# Altium integrated library TI Audio CODEC.IntLib: 199 symbols (part 4 of 17)
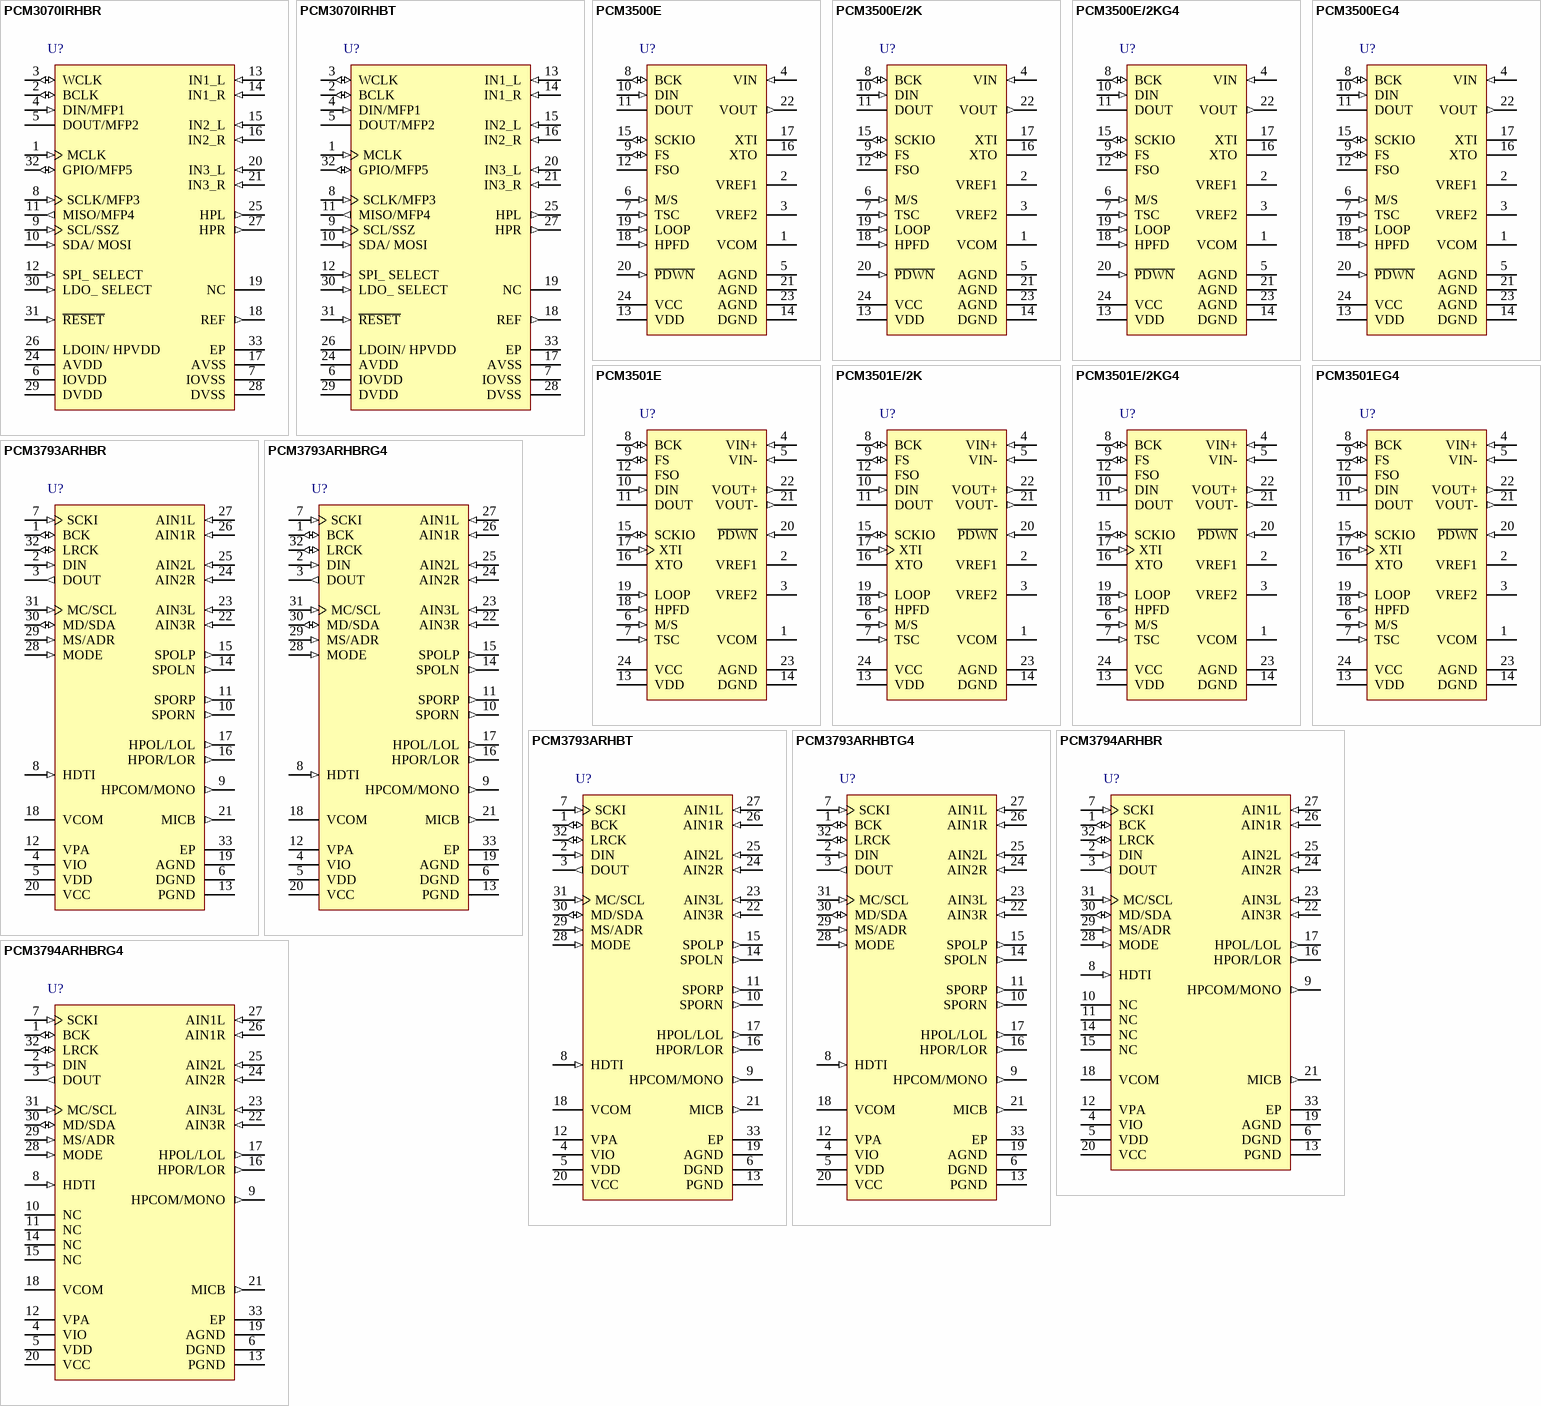
[diagram p16: symbols PCM3070IRHBR to PCM3794ARHBRG4]

## PCM3793ARHBT
designator U?
Very Low-Power Stereo CODEC with HP / Class-D Speaker Amplifier, Notch Filters, ALC and 3D Effects, 2 ADCs and 2 DACs, 93 dB DAC SNR, -40 to 85 degC, 32-pin QFN (RHB), Green (RoHS & no Sb/Br); Manufacturer: Texas Instruments; PartNumber: PCM3793ARHBT; # ADCs (typ): 2; Additional Features: 3D, EQ, Notch filters, ALC; Battery Powered: TRUE; Control Interface: SPI, I2C; DAC SNR: 93; Digital Audio Interfaces: L, R, I2S, DSP; Sampling Rate (Max) (kHz): 50; Speaker Amp Output Power(Max)(W): 0.7; DatasheetVersion: SLAS529A; PackageVersion: revD, Jun-2011; PackageReference: RHB32-3450X3450TP; PackageDescription: 32-Pin Plastic Quad Flat No-Lead, 5 x 5 mm Body, 0.5 mm Pitch, 3.45 x 3.45 mm Exposed Pad; Supplier 1: Digi-Key; Supplier Part Number 1: PCM3793ARHBT-ND; Supplier 2: Newark; Supplier Part Number 2: 30M1568; Supplier 3: Mouser; Supplier Part Number 3: 595-PCM3793ARHBT; # DACs: 2; Speaker Amp Ouputs: 2; Speaker Amp Type: Class-D; Mounting Technology: Surface Mount; Code_JEDEC: MO-220; ComponentLink1Description: Datasheet; ComponentLink1URL: http://www.ti.com/general/docs/lit/getliterature.tsp?genericPartNumber=PCM3793A&fileType=pdf
footprint RHB32-3450X3450TP (QFN, 32-Leads, Body 5x5mm, Pitch 0.5mm, Thermal Pad 3.45x3.45mm, TI Recommended)
pins: 1 BCK (io) "Serial bit clock", 2 DIN (in) "Serial audio data input", 3 DOUT (out) "Serial audio data output", 4 VIO (power) "Power supply for digital I/O", 5 VDD (power) "Power supply for digital core", 6 DGND (power) "Digital ground", 7 SCKI (in) "System clock", 8 HDTI (in) "Headphone plug insertion detection", 9 HPCOM/MONO (out) "Headphone common/mono line output", 10 SPORN (out) "Speaker output R-channel for negative (PCM3793A)", 11 SPORP (out) "Speaker output R-channel for positive (PCM3793A)", 12 VPA (power) "Power supply for power amplifier", 13 PGND (power) "Ground for speaker power amplifier", 14 SPOLN (out) "Speaker output L-channel for negative (PCM3793A)", 15 SPOLP (out) "Speaker output L-channel for positive (PCM3793A)", 16 HPOR/LOR (out) "Headphone/lineout for L-channel", 17 HPOL/LOL (out) "Headphone/lineout for R-channel", 18 VCOM "Analog common voltage", 19 AGND (power) "Ground for analog", 20 VCC (power) "Analog power supply", 21 MICB (out) "Microphone bias source output", 22 AIN3R (in) "Analog input 3 for R-channel", 23 AIN3L (in) "Analog input 3 for L-channel", 24 AIN2R (in) "Analog input 2 for R-channel", 25 AIN2L (in) "Analog input 2 for L-channel", 26 AIN1R (in) "Analog input 1 for R-channel", 27 AIN1L (in) "Analog input 1 for L-channel", 28 MODE (in) "Two- or three-wire interface selection (LOW: SPI, HIGH: I2C)", 29 MS/ADR (in) "Mode control select for three-wire/two-wire interface", 30 MD/SDA (io) "Mode control data for three-wire/two-wire interface", 31 MC/SCL (in) "Mode control clock for three-wire/two-wire interface", 32 LRCK (io) "Left and right channel clock", 33 EP "Exposed Thremal Pad"

## PCM3793ARHBTG4
designator U?
Very Low-Power Stereo CODEC with HP / Class-D Speaker Amplifier, Notch Filters, ALC and 3D Effects, 2 ADCs and 2 DACs, 93 dB DAC SNR, -40 to 85 degC, 32-pin QFN (RHB), Green (RoHS & no Sb/Br); Manufacturer: Texas Instruments; PartNumber: PCM3793ARHBTG4; # ADCs (typ): 2; Additional Features: 3D, EQ, Notch filters, ALC; Battery Powered: TRUE; Control Interface: SPI, I2C; DAC SNR: 93; Digital Audio Interfaces: L, R, I2S, DSP; Sampling Rate (Max) (kHz): 50; Speaker Amp Output Power(Max)(W): 0.7; DatasheetVersion: SLAS529A; PackageVersion: revD, Jun-2011; PackageReference: RHB32-3450X3450TP; PackageDescription: 32-Pin Plastic Quad Flat No-Lead, 5 x 5 mm Body, 0.5 mm Pitch, 3.45 x 3.45 mm Exposed Pad; Supplier 1: Digi-Key; Supplier Part Number 1: PCM3793ARHBTG4-ND; Supplier 2: Newark; Supplier Part Number 2: 33M9603; Supplier 3: Mouser; Supplier Part Number 3: 595-PCM3793ARHBTG4; # DACs: 2; Headphone Driver: TRUE; Speaker Amp Ouputs: 2; Speaker Amp Type: Class-D; Mounting Technology: Surface Mount; Code_JEDEC: MO-220; ComponentLink1Description: Datasheet; ComponentLink1URL: http://www.ti.com/general/docs/lit/getliterature.tsp?genericPartNumber=PCM3793A&fileType=pdf
footprint RHB32-3450X3450TP (QFN, 32-Leads, Body 5x5mm, Pitch 0.5mm, Thermal Pad 3.45x3.45mm, TI Recommended)
pins: 1 BCK (io) "Serial bit clock", 2 DIN (in) "Serial audio data input", 3 DOUT (out) "Serial audio data output", 4 VIO (power) "Power supply for digital I/O", 5 VDD (power) "Power supply for digital core", 6 DGND (power) "Digital ground", 7 SCKI (in) "System clock", 8 HDTI (in) "Headphone plug insertion detection", 9 HPCOM/MONO (out) "Headphone common/mono line output", 10 SPORN (out) "Speaker output R-channel for negative (PCM3793A)", 11 SPORP (out) "Speaker output R-channel for positive (PCM3793A)", 12 VPA (power) "Power supply for power amplifier", 13 PGND (power) "Ground for speaker power amplifier", 14 SPOLN (out) "Speaker output L-channel for negative (PCM3793A)", 15 SPOLP (out) "Speaker output L-channel for positive (PCM3793A)", 16 HPOR/LOR (out) "Headphone/lineout for L-channel", 17 HPOL/LOL (out) "Headphone/lineout for R-channel", 18 VCOM "Analog common voltage", 19 AGND (power) "Ground for analog", 20 VCC (power) "Analog power supply", 21 MICB (out) "Microphone bias source output", 22 AIN3R (in) "Analog input 3 for R-channel", 23 AIN3L (in) "Analog input 3 for L-channel", 24 AIN2R (in) "Analog input 2 for R-channel", 25 AIN2L (in) "Analog input 2 for L-channel", 26 AIN1R (in) "Analog input 1 for R-channel", 27 AIN1L (in) "Analog input 1 for L-channel", 28 MODE (in) "Two- or three-wire interface selection (LOW: SPI, HIGH: I2C)", 29 MS/ADR (in) "Mode control select for three-wire/two-wire interface", 30 MD/SDA (io) "Mode control data for three-wire/two-wire interface", 31 MC/SCL (in) "Mode control clock for three-wire/two-wire interface", 32 LRCK (io) "Left and right channel clock", 33 EP "Exposed Thremal Pad"

## PCM3794ARHBR
designator U?
Very Low-Power Stereo CODEC with HP Amplifier, Notch Filters, ALC and 3D Effects, 2 ADCs and 2 DACs, 93 dB DAC SNR, -40 to 85 degC, 32-pin QFN (RHB), Green (RoHS & no Sb/Br); Manufacturer: Texas Instruments; PartNumber: PCM3794ARHBR; # ADCs (typ): 2; Additional Features: 3D, EQ, Notch filters, ALC; Battery Powered: TRUE; Control Interface: SPI, I2C; DAC SNR: 93; Digital Audio Interfaces: L, R, I2S, DSP; Sampling Rate (Max) (kHz): 50; DatasheetVersion: SLAS529A; PackageVersion: revD, Jun-2011; PackageReference: RHB32-3450X3450TP; PackageDescription: 32-Pin Plastic Quad Flat No-Lead, 5 x 5 mm Body, 0.5 mm Pitch, 3.45 x 3.45 mm Exposed Pad; Supplier 1: Digi-Key; Supplier Part Number 1: 296-21538-2-ND; Supplier 2: Digi-Key; Supplier Part Number 2: 296-21538-1-ND; Supplier 3: Digi-Key; Supplier Part Number 3: 296-21538-6-ND; Supplier 4: Newark; Supplier Part Number 4: 45M9718; Supplier 5: Mouser; Supplier Part Number 5: 595-PCM3794ARHBR; # DACs: 2; Mounting Technology: Surface Mount; Code_JEDEC: MO-220; ComponentLink1Description: Datasheet; ComponentLink1URL: http://www.ti.com/general/docs/lit/getliterature.tsp?genericPartNumber=PCM3794A&fileType=pdf
footprint RHB32-3450X3450TP (QFN, 32-Leads, Body 5x5mm, Pitch 0.5mm, Thermal Pad 3.45x3.45mm, TI Recommended)
pins: 1 BCK (io) "Serial bit clock.", 2 DIN (in) "Serial audio data input.", 3 DOUT (out) "Serial audio data output.", 4 VIO (power) "Power supply for digital I/O.", 5 VDD (power) "Power supply for digital core.", 6 DGND (power) "Digital ground.", 7 SCKI (in) "System clock.", 8 HDTI (in) "Headphone plug insertion detection.", 9 HPCOM/MONO (out) "Headphone common/mono line output.", 10 NC "No connection.", 11 NC "No connection.", 12 VPA (power) "Power supply for power amplifier.", 13 PGND (power) "Ground for speaker power amplifier.", 14 NC "No connection.", 15 NC "No connection.", 16 HPOR/LOR (out) "Headphone/lineout for L-channel.", 17 HPOL/LOL (out) "Headphone/lineout for R-channel.", 18 VCOM "Analog common voltage.", 19 AGND (power) "Ground for analog.", 20 VCC (power) "Analog power supply.", 21 MICB (out) "Microphone bias source output.", 22 AIN3R (in) "Analog input 3 for R-channel.", 23 AIN3L (in) "Analog input 3 for L-channel.", 24 AIN2R (in) "Analog input 2 for R-channel.", 25 AIN2L (in) "Analog input 2 for L-channel.", 26 AIN1R (in) "Analog input 1 for R-channel.", 27 AIN1L (in) "Analog input 1 for L-channel.", 28 MODE (in) "Two- or three-wire interface selection (LOW: SPI, HIGH: I 2C).", 29 MS/ADR (in) "Mode control select for three-wire/two-wire interface.", 30 MD/SDA (io) "Mode control data for three-wire/two-wire interface.", 31 MC/SCL (in) "Mode control clock for three-wire/two-wire interface.", 32 LRCK (io) "Left and right channel clock.", 33 EP "Exposed thermal pad."

## PCM3794ARHBRG4
designator U?
Very Low-Power Stereo CODEC with HP Amplifier, Notch Filters, ALC and 3D Effects, 2 ADCs and 2 DACs, 93 dB DAC SNR, -40 to 85 degC, 32-pin QFN (RHB), Green (RoHS & no Sb/Br); Manufacturer: Texas Instruments; PartNumber: PCM3794ARHBRG4; # ADCs (typ): 2; Additional Features: 3D, EQ, Notch filters, ALC; Battery Powered: TRUE; Control Interface: SPI, I2C; DAC SNR: 93; Digital Audio Interfaces: L, R, I2S, DSP; Sampling Rate (Max) (kHz): 50; DatasheetVersion: SLAS529A; PackageVersion: revD, Jun-2011; PackageReference: RHB32-3450X3450TP; PackageDescription: 32-Pin Plastic Quad Flat No-Lead, 5 x 5 mm Body, 0.5 mm Pitch, 3.45 x 3.45 mm Exposed Pad; Supplier 1: Digi-Key; Supplier Part Number 1: PCM3794ARHBRG4-ND; Supplier 2: Newark; Supplier Part Number 2: 52M5947; Supplier 3: Mouser; Supplier Part Number 3: 595-PCM3794ARHBRG4; # DACs: 2; Headphone Driver: TRUE; Mounting Technology: Surface Mount; Code_JEDEC: MO-220; ComponentLink1Description: Datasheet; ComponentLink1URL: http://www.ti.com/general/docs/lit/getliterature.tsp?genericPartNumber=PCM3794A&fileType=pdf
footprint RHB32-3450X3450TP (QFN, 32-Leads, Body 5x5mm, Pitch 0.5mm, Thermal Pad 3.45x3.45mm, TI Recommended)
pins: 1 BCK (io) "Serial bit clock.", 2 DIN (in) "Serial audio data input.", 3 DOUT (out) "Serial audio data output.", 4 VIO (power) "Power supply for digital I/O.", 5 VDD (power) "Power supply for digital core.", 6 DGND (power) "Digital ground.", 7 SCKI (in) "System clock.", 8 HDTI (in) "Headphone plug insertion detection.", 9 HPCOM/MONO (out) "Headphone common/mono line output.", 10 NC "No connection.", 11 NC "No connection.", 12 VPA (power) "Power supply for power amplifier.", 13 PGND (power) "Ground for speaker power amplifier.", 14 NC "No connection.", 15 NC "No connection.", 16 HPOR/LOR (out) "Headphone/lineout for L-channel.", 17 HPOL/LOL (out) "Headphone/lineout for R-channel.", 18 VCOM "Analog common voltage.", 19 AGND (power) "Ground for analog.", 20 VCC (power) "Analog power supply.", 21 MICB (out) "Microphone bias source output.", 22 AIN3R (in) "Analog input 3 for R-channel.", 23 AIN3L (in) "Analog input 3 for L-channel.", 24 AIN2R (in) "Analog input 2 for R-channel.", 25 AIN2L (in) "Analog input 2 for L-channel.", 26 AIN1R (in) "Analog input 1 for R-channel.", 27 AIN1L (in) "Analog input 1 for L-channel.", 28 MODE (in) "Two- or three-wire interface selection (LOW: SPI, HIGH: I 2C).", 29 MS/ADR (in) "Mode control select for three-wire/two-wire interface.", 30 MD/SDA (io) "Mode control data for three-wire/two-wire interface.", 31 MC/SCL (in) "Mode control clock for three-wire/two-wire interface.", 32 LRCK (io) "Left and right channel clock.", 33 EP "Exposed thermal pad."

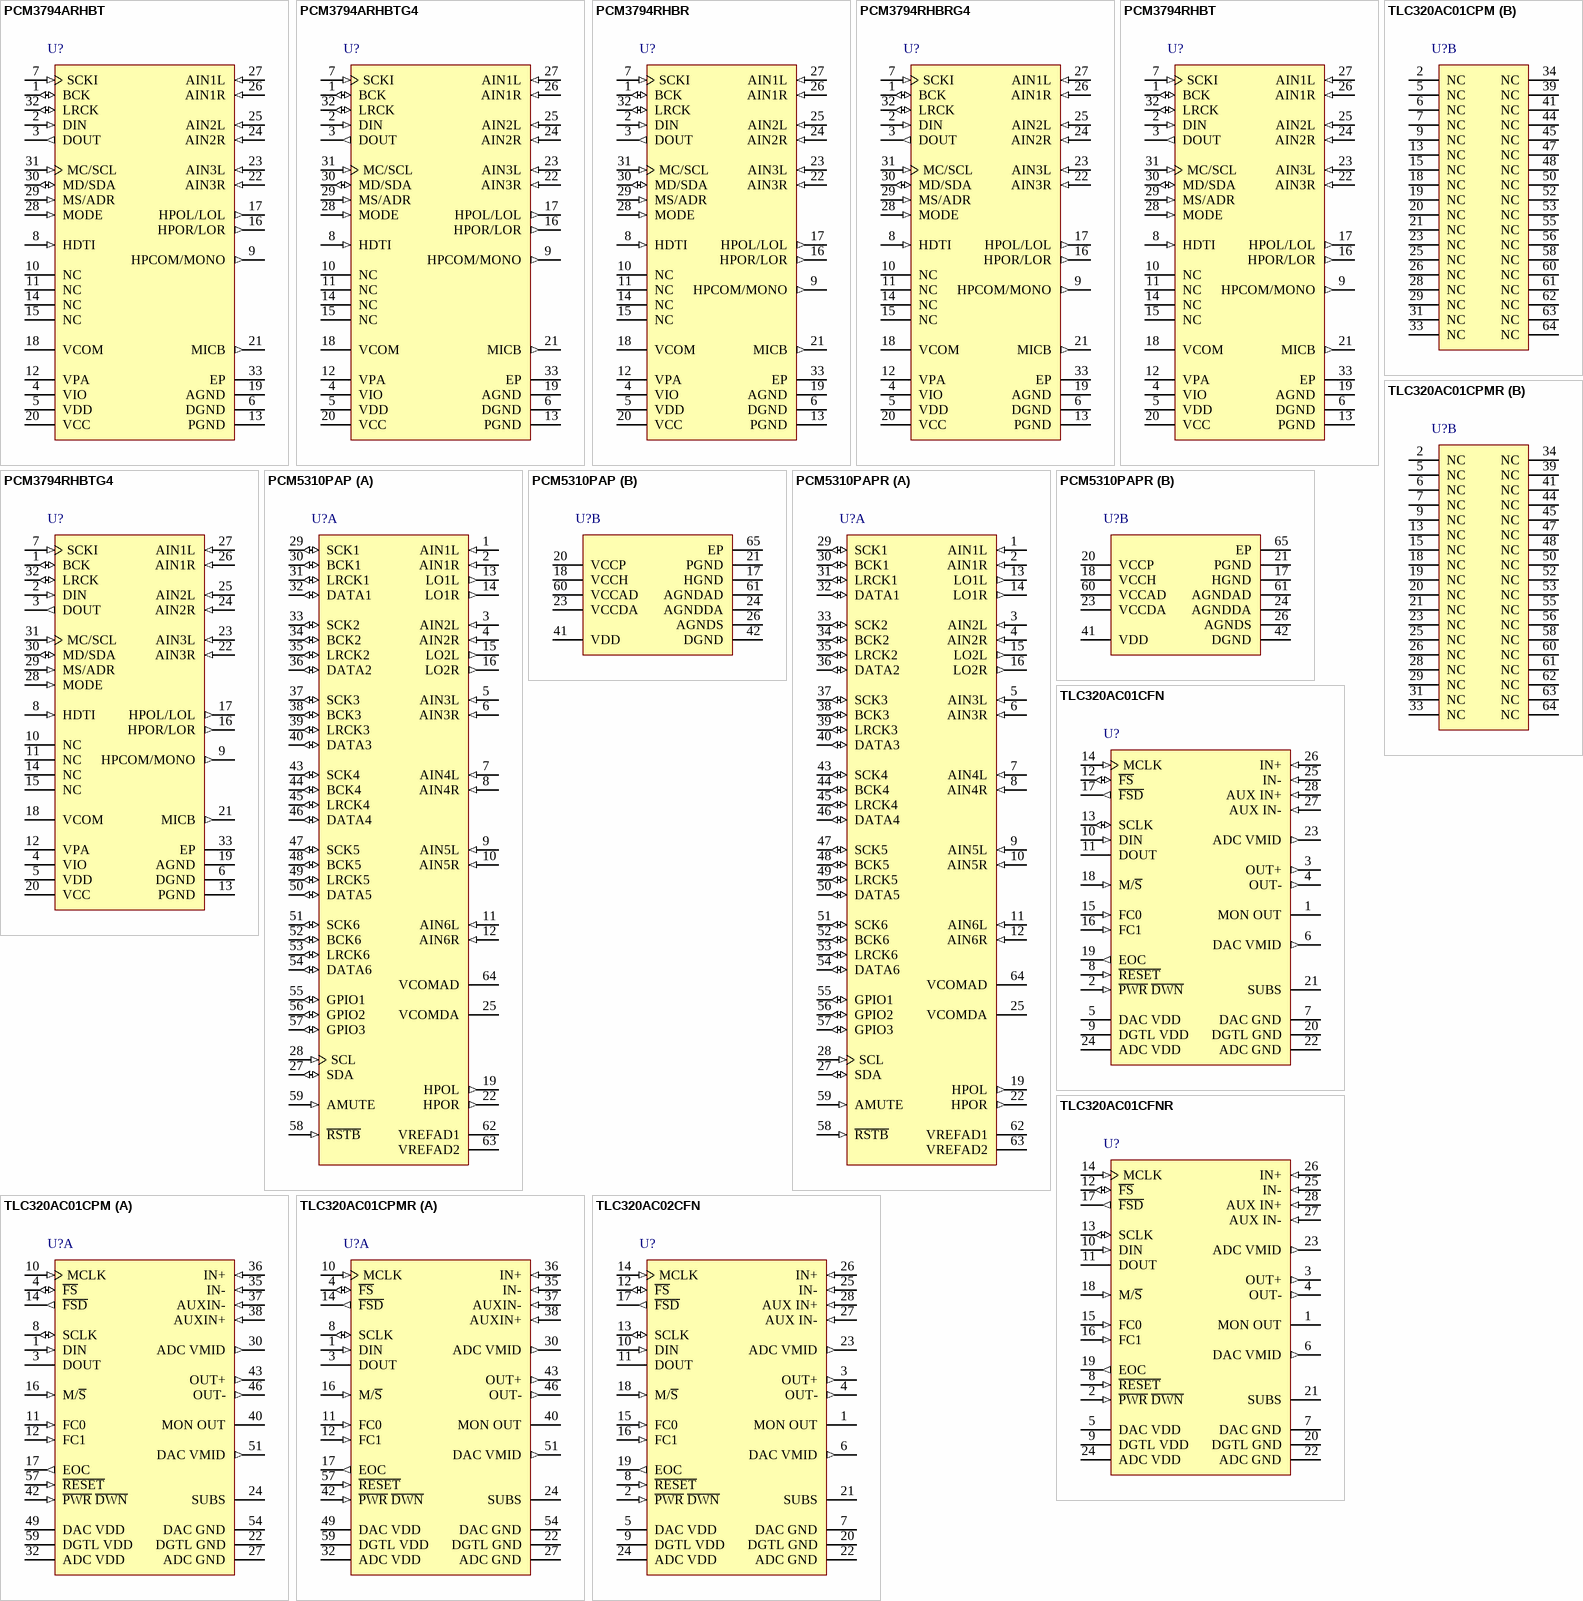
[diagram p3: symbols PCM3794ARHBT to TLC320AC02CFN]

## PCM3794ARHBT
designator U?
Very Low-Power Stereo CODEC with HP Amplifier, Notch Filters, ALC and 3D Effects, 2 ADCs and 2 DACs, 93 dB DAC SNR, -40 to 85 degC, 32-pin QFN (RHB), Green (RoHS & no Sb/Br); Manufacturer: Texas Instruments; PartNumber: PCM3794ARHBT; # ADCs (typ): 2; Additional Features: 3D, EQ, Notch filters, ALC; Battery Powered: TRUE; Control Interface: SPI, I2C; DAC SNR: 93; Digital Audio Interfaces: L, R, I2S, DSP; Sampling Rate (Max) (kHz): 50; DatasheetVersion: SLAS529A; PackageVersion: revD, Jun-2011; PackageReference: RHB32-3450X3450TP; PackageDescription: 32-Pin Plastic Quad Flat No-Lead, 5 x 5 mm Body, 0.5 mm Pitch, 3.45 x 3.45 mm Exposed Pad; Supplier 1: Digi-Key; Supplier Part Number 1: 296-21786-2-ND; Supplier 2: Digi-Key; Supplier Part Number 2: 296-21786-1-ND; Supplier 3: Digi-Key; Supplier Part Number 3: 296-21786-6-ND; Supplier 4: Newark; Supplier Part Number 4: 45M9719; Supplier 5: Mouser; Supplier Part Number 5: 595-PCM3794ARHBT; # DACs: 2; Mounting Technology: Surface Mount; Code_JEDEC: MO-220; ComponentLink1Description: Datasheet; ComponentLink1URL: http://www.ti.com/general/docs/lit/getliterature.tsp?genericPartNumber=PCM3794A&fileType=pdf
footprint RHB32-3450X3450TP (QFN, 32-Leads, Body 5x5mm, Pitch 0.5mm, Thermal Pad 3.45x3.45mm, TI Recommended)
pins: 1 BCK (io) "Serial bit clock.", 2 DIN (in) "Serial audio data input.", 3 DOUT (out) "Serial audio data output.", 4 VIO (power) "Power supply for digital I/O.", 5 VDD (power) "Power supply for digital core.", 6 DGND (power) "Digital ground.", 7 SCKI (in) "System clock.", 8 HDTI (in) "Headphone plug insertion detection.", 9 HPCOM/MONO (out) "Headphone common/mono line output.", 10 NC "No connection.", 11 NC "No connection.", 12 VPA (power) "Power supply for power amplifier.", 13 PGND (power) "Ground for speaker power amplifier.", 14 NC "No connection.", 15 NC "No connection.", 16 HPOR/LOR (out) "Headphone/lineout for L-channel.", 17 HPOL/LOL (out) "Headphone/lineout for R-channel.", 18 VCOM "Analog common voltage.", 19 AGND (power) "Ground for analog.", 20 VCC (power) "Analog power supply.", 21 MICB (out) "Microphone bias source output.", 22 AIN3R (in) "Analog input 3 for R-channel.", 23 AIN3L (in) "Analog input 3 for L-channel.", 24 AIN2R (in) "Analog input 2 for R-channel.", 25 AIN2L (in) "Analog input 2 for L-channel.", 26 AIN1R (in) "Analog input 1 for R-channel.", 27 AIN1L (in) "Analog input 1 for L-channel.", 28 MODE (in) "Two- or three-wire interface selection (LOW: SPI, HIGH: I 2C).", 29 MS/ADR (in) "Mode control select for three-wire/two-wire interface.", 30 MD/SDA (io) "Mode control data for three-wire/two-wire interface.", 31 MC/SCL (in) "Mode control clock for three-wire/two-wire interface.", 32 LRCK (io) "Left and right channel clock.", 33 EP "Exposed thermal pad."

## PCM3794ARHBTG4
designator U?
Very Low-Power Stereo CODEC with HP Amplifier, Notch Filters, ALC and 3D Effects, 2 ADCs and 2 DACs, 93 dB DAC SNR, -40 to 85 degC, 32-pin QFN (RHB), Green (RoHS & no Sb/Br); Manufacturer: Texas Instruments; PartNumber: PCM3794ARHBTG4; # ADCs (typ): 2; Additional Features: 3D, EQ, Notch filters, ALC; Battery Powered: TRUE; Control Interface: SPI, I2C; DAC SNR: 93; Digital Audio Interfaces: L, R, I2S, DSP; Sampling Rate (Max) (kHz): 50; DatasheetVersion: SLAS529A; PackageVersion: revD, Jun-2011; PackageReference: RHB32-3450X3450TP; PackageDescription: 32-Pin Plastic Quad Flat No-Lead, 5 x 5 mm Body, 0.5 mm Pitch, 3.45 x 3.45 mm Exposed Pad; Supplier 1: Digi-Key; Supplier Part Number 1: PCM3794ARHBTG4-ND; Supplier 2: Newark; Supplier Part Number 2: 52M5948; Supplier 3: Mouser; Supplier Part Number 3: 595-PCM3794ARHBTG4; # DACs: 2; Headphone Driver: TRUE; Mounting Technology: Surface Mount; Code_JEDEC: MO-220; ComponentLink1Description: Datasheet; ComponentLink1URL: http://www.ti.com/general/docs/lit/getliterature.tsp?genericPartNumber=PCM3794A&fileType=pdf
footprint RHB32-3450X3450TP (QFN, 32-Leads, Body 5x5mm, Pitch 0.5mm, Thermal Pad 3.45x3.45mm, TI Recommended)
pins: 1 BCK (io) "Serial bit clock.", 2 DIN (in) "Serial audio data input.", 3 DOUT (out) "Serial audio data output.", 4 VIO (power) "Power supply for digital I/O.", 5 VDD (power) "Power supply for digital core.", 6 DGND (power) "Digital ground.", 7 SCKI (in) "System clock.", 8 HDTI (in) "Headphone plug insertion detection.", 9 HPCOM/MONO (out) "Headphone common/mono line output.", 10 NC "No connection.", 11 NC "No connection.", 12 VPA (power) "Power supply for power amplifier.", 13 PGND (power) "Ground for speaker power amplifier.", 14 NC "No connection.", 15 NC "No connection.", 16 HPOR/LOR (out) "Headphone/lineout for L-channel.", 17 HPOL/LOL (out) "Headphone/lineout for R-channel.", 18 VCOM "Analog common voltage.", 19 AGND (power) "Ground for analog.", 20 VCC (power) "Analog power supply.", 21 MICB (out) "Microphone bias source output.", 22 AIN3R (in) "Analog input 3 for R-channel.", 23 AIN3L (in) "Analog input 3 for L-channel.", 24 AIN2R (in) "Analog input 2 for R-channel.", 25 AIN2L (in) "Analog input 2 for L-channel.", 26 AIN1R (in) "Analog input 1 for R-channel.", 27 AIN1L (in) "Analog input 1 for L-channel.", 28 MODE (in) "Two- or three-wire interface selection (LOW: SPI, HIGH: I 2C).", 29 MS/ADR (in) "Mode control select for three-wire/two-wire interface.", 30 MD/SDA (io) "Mode control data for three-wire/two-wire interface.", 31 MC/SCL (in) "Mode control clock for three-wire/two-wire interface.", 32 LRCK (io) "Left and right channel clock.", 33 EP "Exposed thermal pad."

## PCM3794RHBR
designator U?
Very Low-Power Stereo CODEC with HP Amplifier, Notch Filters, ALC and 3D Effects, 2 ADCs and 2 DACs, 93 dB DAC SNR, 32-pin QFN (RHB), Green (RoHS & no Sb/Br); Manufacturer: Texas Instruments; PartNumber: PCM3794RHBR; # ADCs (typ): 2; Additional Features: 3D, EQ, Notch filters, ALC; Battery Powered: TRUE; Control Interface: SPI, I2C; DAC SNR: 93; Digital Audio Interfaces: L, R, I2S, DSP; Sampling Rate (Max) (kHz): 50; DatasheetVersion: SLES193C; PackageVersion: revD, Jun-2011; PackageReference: RHB32-3450X3450TP; PackageDescription: 32-Pin Plastic Quad Flat No-Lead, 5 x 5 mm Body, 0.5 mm Pitch, 3.45 x 3.45 mm Exposed Pad; Supplier 1: Digi-Key; Supplier Part Number 1: 296-21241-2-ND; Supplier 2: Digi-Key; Supplier Part Number 2: 296-21241-1-ND; Supplier 3: Digi-Key; Supplier Part Number 3: 296-21241-6-ND; Supplier 4: Newark; Supplier Part Number 4: 18M2720; Supplier 5: Mouser; Supplier Part Number 5: 595-PCM3794RHBR; # DACs: 2; Mounting Technology: Surface Mount; Code_JEDEC: MO-220; ComponentLink1Description: Datasheet; ComponentLink1URL: http://www.ti.com/general/docs/lit/getliterature.tsp?genericPartNumber=PCM3794&fileType=pdf
footprint RHB32-3450X3450TP (QFN, 32-Leads, Body 5x5mm, Pitch 0.5mm, Thermal Pad 3.45x3.45mm, TI Recommended)
pins: 1 BCK (io) "Serial bit clock.", 2 DIN (in) "Serial audio data input.", 3 DOUT (out) "Serial audio data output.", 4 VIO (power) "Power supply for digital I/O.", 5 VDD (power) "Power supply for digital core.", 6 DGND (power) "Digital ground.", 7 SCKI (in) "System clock.", 8 HDTI (in) "Headphone plug insertion detection.", 9 HPCOM/MONO (out) "Headphone common/mono line output.", 10 NC "Speaker output R-channel for negative (PCM3793).", 11 NC "Speaker output R-channel for positive (PCM3793).", 12 VPA (power) "Power supply for power amplifier.", 13 PGND (power) "Ground for speaker power amplifier.", 14 NC "Speaker output L-channel for negative (PCM3793).", 15 NC "Speaker output L-channel for positive (PCM3793).", 16 HPOR/LOR (out) "Headphone/lineout for L-channel.", 17 HPOL/LOL (out) "Headphone/lineout for R-channel.", 18 VCOM "Analog common voltage.", 19 AGND (power) "Ground for analog.", 20 VCC (power) "Analog power supply.", 21 MICB (out) "Microphone bias source output.", 22 AIN3R (in) "Analog input 3 for R-channel.", 23 AIN3L (in) "Analog input 3 for L-channel.", 24 AIN2R (in) "Analog input 2 for R-channel.", 25 AIN2L (in) "Analog input 2 for L-channel.", 26 AIN1R (in) "Analog input 1 for R-channel.", 27 AIN1L (in) "Analog input 1 for L-channel.", 28 MODE (in) "Two- or three-wire interface selection (LOW: SPI, HIGH: I 2C).", 29 MS/ADR (in) "Mode control select for three-wire/two-wire interface.", 30 MD/SDA (io) "Mode control data for three-wire/two-wire interface.", 31 MC/SCL (in) "Mode control clock for three-wire/two-wire interface.", 32 LRCK (io) "Left and right channel clock.", 33 EP "Exposed thermal pad."

## PCM3794RHBRG4
designator U?
Very Low-Power Stereo CODEC with HP Amplifier, Notch Filters, ALC and 3D Effects, 2 ADCs and 2 DACs, 93 dB DAC SNR, 32-pin QFN (RHB), Green (RoHS & no Sb/Br); Manufacturer: Texas Instruments; PartNumber: PCM3794RHBRG4; # ADCs (typ): 2; Additional Features: 3D, EQ, Notch filters, ALC; Battery Powered: TRUE; Control Interface: SPI, I2C; DAC SNR: 93; Digital Audio Interfaces: L, R, I2S, DSP; Sampling Rate (Max) (kHz): 50; DatasheetVersion: SLES193C; PackageVersion: revD, Jun-2011; PackageReference: RHB32-3450X3450TP; PackageDescription: 32-Pin Plastic Quad Flat No-Lead, 5 x 5 mm Body, 0.5 mm Pitch, 3.45 x 3.45 mm Exposed Pad; Supplier 1: Digi-Key; Supplier Part Number 1: PCM3794RHBRG4-ND; Supplier 2: Newark; Supplier Part Number 2: 20M5707; Supplier 3: Mouser; Supplier Part Number 3: 595-PCM3794RHBRG4; # DACs: 2; Headphone Driver: TRUE; Mounting Technology: Surface Mount; Code_JEDEC: MO-220; ComponentLink1Description: Datasheet; ComponentLink1URL: http://www.ti.com/general/docs/lit/getliterature.tsp?genericPartNumber=PCM3794&fileType=pdf
footprint RHB32-3450X3450TP (QFN, 32-Leads, Body 5x5mm, Pitch 0.5mm, Thermal Pad 3.45x3.45mm, TI Recommended)
pins: 1 BCK (io) "Serial bit clock.", 2 DIN (in) "Serial audio data input.", 3 DOUT (out) "Serial audio data output.", 4 VIO (power) "Power supply for digital I/O.", 5 VDD (power) "Power supply for digital core.", 6 DGND (power) "Digital ground.", 7 SCKI (in) "System clock.", 8 HDTI (in) "Headphone plug insertion detection.", 9 HPCOM/MONO (out) "Headphone common/mono line output.", 10 NC "Speaker output R-channel for negative (PCM3793).", 11 NC "Speaker output R-channel for positive (PCM3793).", 12 VPA (power) "Power supply for power amplifier.", 13 PGND (power) "Ground for speaker power amplifier.", 14 NC "Speaker output L-channel for negative (PCM3793).", 15 NC "Speaker output L-channel for positive (PCM3793).", 16 HPOR/LOR (out) "Headphone/lineout for L-channel.", 17 HPOL/LOL (out) "Headphone/lineout for R-channel.", 18 VCOM "Analog common voltage.", 19 AGND (power) "Ground for analog.", 20 VCC (power) "Analog power supply.", 21 MICB (out) "Microphone bias source output.", 22 AIN3R (in) "Analog input 3 for R-channel.", 23 AIN3L (in) "Analog input 3 for L-channel.", 24 AIN2R (in) "Analog input 2 for R-channel.", 25 AIN2L (in) "Analog input 2 for L-channel.", 26 AIN1R (in) "Analog input 1 for R-channel.", 27 AIN1L (in) "Analog input 1 for L-channel.", 28 MODE (in) "Two- or three-wire interface selection (LOW: SPI, HIGH: I 2C).", 29 MS/ADR (in) "Mode control select for three-wire/two-wire interface.", 30 MD/SDA (io) "Mode control data for three-wire/two-wire interface.", 31 MC/SCL (in) "Mode control clock for three-wire/two-wire interface.", 32 LRCK (io) "Left and right channel clock.", 33 EP "Exposed thermal pad."

## PCM3794RHBT
designator U?
Very Low-Power Stereo CODEC with HP Amplifier, Notch Filters, ALC and 3D Effects, 2 ADCs and 2 DACs, 93 dB DAC SNR, 32-pin QFN (RHB), Green (RoHS & no Sb/Br); Manufacturer: Texas Instruments; PartNumber: PCM3794RHBT; # ADCs (typ): 2; Additional Features: 3D, EQ, Notch filters, ALC; Battery Powered: TRUE; Control Interface: SPI, I2C; DAC SNR: 93; Digital Audio Interfaces: L, R, I2S, DSP; Sampling Rate (Max) (kHz): 50; DatasheetVersion: SLES193C; PackageVersion: revD, Jun-2011; PackageReference: RHB32-3450X3450TP; PackageDescription: 32-Pin Plastic Quad Flat No-Lead, 5 x 5 mm Body, 0.5 mm Pitch, 3.45 x 3.45 mm Exposed Pad; Supplier 1: Digi-Key; Supplier Part Number 1: PCM3794RHBT-ND; Supplier 2: Farnell; Supplier Part Number 2: 2060950; Supplier 3: Newark; Supplier Part Number 3: 22M1604; Supplier 4: Mouser; Supplier Part Number 4: 595-PCM3794RHBT; # DACs: 2; Headphone Driver: TRUE; Mounting Technology: Surface Mount; Code_JEDEC: MO-220; ComponentLink1Description: Datasheet; ComponentLink1URL: http://www.ti.com/general/docs/lit/getliterature.tsp?genericPartNumber=PCM3794&fileType=pdf
footprint RHB32-3450X3450TP (QFN, 32-Leads, Body 5x5mm, Pitch 0.5mm, Thermal Pad 3.45x3.45mm, TI Recommended)
pins: 1 BCK (io) "Serial bit clock.", 2 DIN (in) "Serial audio data input.", 3 DOUT (out) "Serial audio data output.", 4 VIO (power) "Power supply for digital I/O.", 5 VDD (power) "Power supply for digital core.", 6 DGND (power) "Digital ground.", 7 SCKI (in) "System clock.", 8 HDTI (in) "Headphone plug insertion detection.", 9 HPCOM/MONO (out) "Headphone common/mono line output.", 10 NC "Speaker output R-channel for negative (PCM3793).", 11 NC "Speaker output R-channel for positive (PCM3793).", 12 VPA (power) "Power supply for power amplifier.", 13 PGND (power) "Ground for speaker power amplifier.", 14 NC "Speaker output L-channel for negative (PCM3793).", 15 NC "Speaker output L-channel for positive (PCM3793).", 16 HPOR/LOR (out) "Headphone/lineout for L-channel.", 17 HPOL/LOL (out) "Headphone/lineout for R-channel.", 18 VCOM "Analog common voltage.", 19 AGND (power) "Ground for analog.", 20 VCC (power) "Analog power supply.", 21 MICB (out) "Microphone bias source output.", 22 AIN3R (in) "Analog input 3 for R-channel.", 23 AIN3L (in) "Analog input 3 for L-channel.", 24 AIN2R (in) "Analog input 2 for R-channel.", 25 AIN2L (in) "Analog input 2 for L-channel.", 26 AIN1R (in) "Analog input 1 for R-channel.", 27 AIN1L (in) "Analog input 1 for L-channel.", 28 MODE (in) "Two- or three-wire interface selection (LOW: SPI, HIGH: I 2C).", 29 MS/ADR (in) "Mode control select for three-wire/two-wire interface.", 30 MD/SDA (io) "Mode control data for three-wire/two-wire interface.", 31 MC/SCL (in) "Mode control clock for three-wire/two-wire interface.", 32 LRCK (io) "Left and right channel clock.", 33 EP "Exposed thermal pad."

## PCM3794RHBTG4
designator U?
Very Low-Power Stereo CODEC with HP Amplifier, Notch Filters, ALC and 3D Effects, 2 ADCs and 2 DACs, 93 dB DAC SNR, 32-pin QFN (RHB), Green (RoHS & no Sb/Br); Manufacturer: Texas Instruments; PartNumber: PCM3794RHBTG4; # ADCs (typ): 2; Additional Features: 3D, EQ, Notch filters, ALC; Battery Powered: TRUE; Control Interface: SPI, I2C; DAC SNR: 93; Digital Audio Interfaces: L, R, I2S, DSP; Sampling Rate (Max) (kHz): 50; DatasheetVersion: SLES193C; PackageVersion: revD, Jun-2011; PackageReference: RHB32-3450X3450TP; PackageDescription: 32-Pin Plastic Quad Flat No-Lead, 5 x 5 mm Body, 0.5 mm Pitch, 3.45 x 3.45 mm Exposed Pad; Supplier 1: Digi-Key; Supplier Part Number 1: PCM3794RHBTG4-ND; Supplier 2: Newark; Supplier Part Number 2: 27M0478; Supplier 3: Mouser; Supplier Part Number 3: 595-PCM3794RHBTG4; # DACs: 2; Headphone Driver: TRUE; Mounting Technology: Surface Mount; Code_JEDEC: MO-220; ComponentLink1Description: Datasheet; ComponentLink1URL: http://www.ti.com/general/docs/lit/getliterature.tsp?genericPartNumber=PCM3794&fileType=pdf
footprint RHB32-3450X3450TP (QFN, 32-Leads, Body 5x5mm, Pitch 0.5mm, Thermal Pad 3.45x3.45mm, TI Recommended)
pins: 1 BCK (io) "Serial bit clock.", 2 DIN (in) "Serial audio data input.", 3 DOUT (out) "Serial audio data output.", 4 VIO (power) "Power supply for digital I/O.", 5 VDD (power) "Power supply for digital core.", 6 DGND (power) "Digital ground.", 7 SCKI (in) "System clock.", 8 HDTI (in) "Headphone plug insertion detection.", 9 HPCOM/MONO (out) "Headphone common/mono line output.", 10 NC "Speaker output R-channel for negative (PCM3793).", 11 NC "Speaker output R-channel for positive (PCM3793).", 12 VPA (power) "Power supply for power amplifier.", 13 PGND (power) "Ground for speaker power amplifier.", 14 NC "Speaker output L-channel for negative (PCM3793).", 15 NC "Speaker output L-channel for positive (PCM3793).", 16 HPOR/LOR (out) "Headphone/lineout for L-channel.", 17 HPOL/LOL (out) "Headphone/lineout for R-channel.", 18 VCOM "Analog common voltage.", 19 AGND (power) "Ground for analog.", 20 VCC (power) "Analog power supply.", 21 MICB (out) "Microphone bias source output.", 22 AIN3R (in) "Analog input 3 for R-channel.", 23 AIN3L (in) "Analog input 3 for L-channel.", 24 AIN2R (in) "Analog input 2 for R-channel.", 25 AIN2L (in) "Analog input 2 for L-channel.", 26 AIN1R (in) "Analog input 1 for R-channel.", 27 AIN1L (in) "Analog input 1 for L-channel.", 28 MODE (in) "Two- or three-wire interface selection (LOW: SPI, HIGH: I 2C).", 29 MS/ADR (in) "Mode control select for three-wire/two-wire interface.", 30 MD/SDA (io) "Mode control data for three-wire/two-wire interface.", 31 MC/SCL (in) "Mode control clock for three-wire/two-wire interface.", 32 LRCK (io) "Left and right channel clock.", 33 EP "Exposed thermal pad."

## PCM5310PAP
designator U?
4 ch / 4 ch Audio CODEC with 2 Vrms Driver, 4 ADCs and 4 DACs, 100 dB DAC SNR, -25 to 85 degC, 64-pin HTQFP (PAP), Green (RoHS & no Sb/Br); Manufacturer: Texas Instruments; PartNumber: PCM5310PAP; # ADCs (typ): 4; Additional Features: 2Vrms/HP Driver, Digital MUX, GPIO; Control Interface: I2C; DAC SNR: 100; Digital Audio Interfaces: I2S, LJ, RJ; Headphone Driver: TRUE; Sampling Rate (Max) (kHz): 192; DatasheetVersion: SLES244A; PackageVersion: revC, Aug-2003; PackageReference: PAP64-5900X5900TP; PackageDescription: 64-Pin PowerPAD Plastic Quad Flatpack, 10 x 10 mm Body, 0.5 mm Pitch, Exposed Pad; Supplier 1: Digi-Key; Supplier Part Number 1: PCM5310PAP-ND; Supplier 2: Newark; Supplier Part Number 2: 09R5064; Supplier 3: Mouser; Supplier Part Number 3: 595-PCM5310PAP; # DACs: 4; Line Powered: TRUE; Mounting Technology: Surface Mount; Code_JEDEC: MS-026; ComponentLink1Description: Datasheet; ComponentLink1URL: http://www.ti.com/general/docs/lit/getliterature.tsp?genericPartNumber=PCM5310&fileType=pdf
footprint PAP64-5900X5900TP_N (Thin QFP, 64-Leads, Body 10x10mm, Pitch 0.5mm, Thermal Pad 6.5x6.5mm, IPC Medium Density)
footprint PAP64-5900X5900TP_L (Thin QFP, 64-Leads, Body 10x10mm, Pitch 0.5mm, Thermal Pad 6.5x6.5mm, IPC High Density)
footprint PAP64-5900X5900TP_M (Thin QFP, 64-Leads, Body 10x10mm, Pitch 0.5mm, Thermal Pad 6.5x6.5mm, IPC Low Density)
part A pins: 1 AIN1L (in) "Line input 1 L-channel.", 2 AIN1R (in) "Line input 1 R-channel.", 3 AIN2L (in) "Line input 2 L-channel.", 4 AIN2R (in) "Line input 2 R-channel.", 5 AIN3L (in) "Line input 3 L-channel.", 6 AIN3R (in) "Line input 3 R-channel.", 7 AIN4L (in) "Line input 4 L-channel.", 8 AIN4R (in) "Line input 4 R-channel.", 9 AIN5L (in) "Line input 5 L-channel.", 10 AIN5R (in) "Line input 5 R-channel.", 11 AIN6L (in) "Line input 6 L-channel.", 12 AIN6R (in) "Line input 6 R-channel.", 13 LO1L (out) "Line output 1 L-channel.", 14 LO1R (out) "Line output 1 R-channel.", 15 LO2L (out) "Line output 2 L-channel.", 16 LO2R (out) "Line output 2 R-channel.", 19 HPOL (out) "Headphone output L-channel.", 22 HPOR (out) "Headphone output R-channel.", 25 VCOMDA "Common voltage for DAC.", 27 SDA (io) "Data for I2C interface.", 28 SCL (in) "Clock for I2C interface.", 29 SCK1 (io) "PORT-1 system clock.", 30 BCK1 (io) "PORT-1 serial bit clock.", 31 LRCK1 (io) "PORT-1 left and right channel clock.", 32 DATA1 (io) "PORT-1 serial audio data.", 33 SCK2 (io) "PORT-2 system clock.", 34 BCK2 (io) "PORT-2 serial bit clock.", 35 LRCK2 (io) "PORT-2 left and right channel clock.", 36 DATA2 (io) "PORT-2 serial audio data.", 37 SCK3 (io) "PORT-3 system clock.", 38 BCK3 (io) "PORT-3 serial bit clock.", 39 LRCK3 (io) "PORT-3 left and right channel clock.", 40 DATA3 (io) "PORT-3 serial audio data.", 43 SCK4 (io) "PORT-4 system clock.", 44 BCK4 (io) "PORT-4 serial bit clock.", 45 LRCK4 (io) "PORT-4 left and right channel clock.", 46 DATA4 (io) "PORT-4 serial audio data.", 47 SCK5 (io) "PORT-5 system clock.", 48 BCK5 (io) "PORT-5 serial bit clock.", 49 LRCK5 (io) "PORT-5 left and right channel clock.", 50 DATA5 (io) "PORT-5 serial audio data.", 51 SCK6 (io) "PORT-6 system clock.", 52 BCK6 (io) "PORT-6 serial bit clock.", 53 LRCK6 (io) "PORT-6 left and right channel clock.", 54 DATA6 (io) "PORT-6 serial audio data.", 55 GPIO1 (io) "General-purpose input and output 1.", 56 GPIO2 (io) "General-purpose input and output 2.", 57 GPIO3 (io) "General-purpose input and output 3.", 58 ~{RSTB} (in) "Reset (active low).", 59 AMUTE (in) "Analog mute control for all analog outputs (active high).", 62 VREFAD1 "Reference voltage 1 for ADC.", 63 VREFAD2 "Reference voltage 2 for ADC.", 64 VCOMAD "Common voltage for ADC."
part B pins: 17 HGND (power) "Ground for 2-VRMS driver.", 18 VCCH (power) "Power supply for 2-VRMS driver (9.0-V typical).", 20 VCCP (power) "Power supply for headphone (3.3-V typical).", 21 PGND (power) "Ground for headphone.", 23 VCCDA (power) "Power supply for DAC (3.3-V typical).", 24 AGNDDA (power) "Ground for DAC.", 26 AGNDS (power) "Analog ground.", 41 VDD (power) "Power supply for digital (3.3-V typical).", 42 DGND (power) "Digital ground.", 60 VCCAD (power) "Power supply for ADC (3.3-V typical).", 61 AGNDAD (power) "Ground for ADC.", 65 EP (power) "Exposed thermal pad."

## PCM5310PAPR
designator U?
4 ch / 4 ch Audio CODEC with 2 Vrms Driver, 4 ADCs and 4 DACs, 100 dB DAC SNR, -25 to 85 degC, 64-pin HTQFP (PAP), Green (RoHS & no Sb/Br); Manufacturer: Texas Instruments; PartNumber: PCM5310PAPR; # ADCs (typ): 4; Additional Features: 2Vrms/HP Driver, Digital MUX, GPIO; Control Interface: I2C; DAC SNR: 100; Digital Audio Interfaces: I2S, LJ, RJ; Line Powered: TRUE; Sampling Rate (Max) (kHz): 192; DatasheetVersion: SLES244A; PackageVersion: revC, Aug-2003; PackageReference: PAP64-5900X5900TP; PackageDescription: 64-Pin PowerPAD Plastic Quad Flatpack, 10 x 10 mm Body, 0.5 mm Pitch, Exposed Pad; Supplier 1: Digi-Key; Supplier Part Number 1: 296-24214-2-ND; Supplier 2: Digi-Key; Supplier Part Number 2: 296-24214-1-ND; Supplier 3: Digi-Key; Supplier Part Number 3: 296-24214-6-ND; Supplier 4: Newark; Supplier Part Number 4: 09R5065; Supplier 5: Mouser; Supplier Part Number 5: 595-PCM5310PAPR; # DACs: 4; Mounting Technology: Surface Mount; Code_JEDEC: MS-026; ComponentLink1Description: Datasheet; ComponentLink1URL: http://www.ti.com/general/docs/lit/getliterature.tsp?genericPartNumber=PCM5310&fileType=pdf
footprint PAP64-5900X5900TP_N (Thin QFP, 64-Leads, Body 10x10mm, Pitch 0.5mm, Thermal Pad 6.5x6.5mm, IPC Medium Density)
footprint PAP64-5900X5900TP_L (Thin QFP, 64-Leads, Body 10x10mm, Pitch 0.5mm, Thermal Pad 6.5x6.5mm, IPC High Density)
footprint PAP64-5900X5900TP_M (Thin QFP, 64-Leads, Body 10x10mm, Pitch 0.5mm, Thermal Pad 6.5x6.5mm, IPC Low Density)
part A pins: 1 AIN1L (in) "Line input 1 L-channel.", 2 AIN1R (in) "Line input 1 R-channel.", 3 AIN2L (in) "Line input 2 L-channel.", 4 AIN2R (in) "Line input 2 R-channel.", 5 AIN3L (in) "Line input 3 L-channel.", 6 AIN3R (in) "Line input 3 R-channel.", 7 AIN4L (in) "Line input 4 L-channel.", 8 AIN4R (in) "Line input 4 R-channel.", 9 AIN5L (in) "Line input 5 L-channel.", 10 AIN5R (in) "Line input 5 R-channel.", 11 AIN6L (in) "Line input 6 L-channel.", 12 AIN6R (in) "Line input 6 R-channel.", 13 LO1L (out) "Line output 1 L-channel.", 14 LO1R (out) "Line output 1 R-channel.", 15 LO2L (out) "Line output 2 L-channel.", 16 LO2R (out) "Line output 2 R-channel.", 19 HPOL (out) "Headphone output L-channel.", 22 HPOR (out) "Headphone output R-channel.", 25 VCOMDA "Common voltage for DAC.", 27 SDA (io) "Data for I2C interface.", 28 SCL (in) "Clock for I2C interface.", 29 SCK1 (io) "PORT-1 system clock.", 30 BCK1 (io) "PORT-1 serial bit clock.", 31 LRCK1 (io) "PORT-1 left and right channel clock.", 32 DATA1 (io) "PORT-1 serial audio data.", 33 SCK2 (io) "PORT-2 system clock.", 34 BCK2 (io) "PORT-2 serial bit clock.", 35 LRCK2 (io) "PORT-2 left and right channel clock.", 36 DATA2 (io) "PORT-2 serial audio data.", 37 SCK3 (io) "PORT-3 system clock.", 38 BCK3 (io) "PORT-3 serial bit clock.", 39 LRCK3 (io) "PORT-3 left and right channel clock.", 40 DATA3 (io) "PORT-3 serial audio data.", 43 SCK4 (io) "PORT-4 system clock.", 44 BCK4 (io) "PORT-4 serial bit clock.", 45 LRCK4 (io) "PORT-4 left and right channel clock.", 46 DATA4 (io) "PORT-4 serial audio data.", 47 SCK5 (io) "PORT-5 system clock.", 48 BCK5 (io) "PORT-5 serial bit clock.", 49 LRCK5 (io) "PORT-5 left and right channel clock.", 50 DATA5 (io) "PORT-5 serial audio data.", 51 SCK6 (io) "PORT-6 system clock.", 52 BCK6 (io) "PORT-6 serial bit clock.", 53 LRCK6 (io) "PORT-6 left and right channel clock.", 54 DATA6 (io) "PORT-6 serial audio data.", 55 GPIO1 (io) "General-purpose input and output 1.", 56 GPIO2 (io) "General-purpose input and output 2.", 57 GPIO3 (io) "General-purpose input and output 3.", 58 ~{RSTB} (in) "Reset (active low).", 59 AMUTE (in) "Analog mute control for all analog outputs (active high).", 62 VREFAD1 "Reference voltage 1 for ADC.", 63 VREFAD2 "Reference voltage 2 for ADC.", 64 VCOMAD "Common voltage for ADC."
part B pins: 17 HGND (power) "Ground for 2-VRMS driver.", 18 VCCH (power) "Power supply for 2-VRMS driver (9.0-V typical).", 20 VCCP (power) "Power supply for headphone (3.3-V typical).", 21 PGND (power) "Ground for headphone.", 23 VCCDA (power) "Power supply for DAC (3.3-V typical).", 24 AGNDDA (power) "Ground for DAC.", 26 AGNDS (power) "Analog ground.", 41 VDD (power) "Power supply for digital (3.3-V typical).", 42 DGND (power) "Digital ground.", 60 VCCAD (power) "Power supply for ADC (3.3-V typical).", 61 AGNDAD (power) "Ground for ADC.", 65 EP (power) "Exposed thermal pad."

## TLC320AC01CFN
designator U?
Single Channel CODEC-Bandwidth Independent of Sampling Rate, 0 to 70 degC, 28-pin PLCC (FN), Green (RoHS & no Sb/Br); Manufacturer: Texas Instruments; PartNumber: TLC320AC01CFN; Line Powered: TRUE; Sampling Rate (Max) (kHz): 25; DatasheetVersion: SLAS057D; PackageVersion: revB, Mar-1995; PackageReference: FN28; PackageDescription: 28-Pin Plastic J-Leaded Chip Carrier, 1.27 mm Pitch; Supplier 1: Digi-Key; Supplier Part Number 1: 296-10267-5-ND; Supplier 2: Mouser; Supplier Part Number 2: 595-TLC320AC01CFN; Mounting Technology: Surface Mount; Code_JEDEC: MS-018; ComponentLink1Description: Datasheet; ComponentLink1URL: http://www.ti.com/general/docs/lit/getliterature.tsp?genericPartNumber=TLC320AC01&fileType=pdf
footprint FN28_N (Leaded Chip Carrier, 28-Leads, Body 11.5x11.5mm, Pitch 1.27mm, IPC Medium Density)
footprint FN28_L (Leaded Chip Carrier, 28-Leads, Body 11.5x11.5mm, Pitch 1.27mm, IPC High Density)
footprint FN28_M (Leaded Chip Carrier, 28-Leads, Body 11.5x11.5mm, Pitch 1.27mm, IPC Low Density)
pins: 1 MON OUT (hiz) "The monitor output allows monitoring of analog input and is a high-impedance output.", 2 ~{PWR} ~{DWN} (in) "Power-down input. When P\W\R\ D\W\N\ is taken low, the device is powered down such that the existing internally programmed state is maintained. When P\W\R\ D\W\N\ is brought high, full operation resumes.", 3 OUT+ (out) "Noninverting output of analog output power amplifier. OUT+ can drive transformer hybrids or high-impedance loads directly in a differential connection or a single-ended configuration with a buffered VMID.", 4 OUT- (out) "Inverting output of analog output power amplifier. OUT- is functionally identical with and complementary to OUT+.", 5 DAC VDD (power) "Analog supply voltage for the DAC channel", 6 DAC VMID (out) "Midsupply for the DAC channel (requires a bypass capacitor). DAC VMID must be buffered when used as an external reference.", 7 DAC GND (power) "Analog ground for the DAC channel", 8 ~{RESET} (in) "Reset input that initializes the internal counters and control registers. R\E\S\E\T\ initiates the serial data communications, initializes all of the registers to their default values, and puts the device in a preprogrammed (See Datasheet)", 9 DGTL VDD (power) "Digital supply voltage for control logic", 10 DIN (in) "Data input. DIN receives the DAC input data and command information and is synchronized with SCLK.", 11 DOUT (hiz) "Data output. DOUT outputs the ADC data results and register read contents. DOUT is synchronized with SCLK.", 12 ~{FS} (io) "Frame synchronization. When FS goes low, DIN begins receiving data bits and DOUT  begins transmitting data bits. In master mode, FS is low during the simultaneous 16-bit transmission to DIN and from DOUT. In slave mode, FS (See Datasheet)", 13 SCLK (io) "Shift clock. SCLK clocks the digital data into DIN and out of DOUT during the frame-synchronization interval. When configured as an output (M/S high), SCLK is generated internally by dividing the master clock signal (See Datasheet)", 14 MCLK (in) "The master-clock input drives all the key logic signals of the AIC.", 15 FC0 (in) "Hardware control input. FC0 is used in conjunction with FC1 to request secondary communication and phase adjustments. FC0 should be tied low if it is not used.", 16 FC1 (in) "Hardware control input. FC1 is used in conjunction with FC0 to request secondary communication and phase adjustments. FC1 should be tied low if it is not used.", 17 ~{FSD} (out) "Frame-synchronization delayed output. This active-low output synchronizes a slave device to the frame synchronization timing of the master device. F\S\D\  is applied to the slave F\S\ input and is the same duration as the (See Datasheet)", 18 M/~{S} (in) "Master/slave select input. When M/S\ is high, the device is the master and when low, it is a slave.", 19 EOC (out) "End-of-conversion output. EOC goes high at the start of the ADC conversion period and low when conversion is complete. EOC remains low until the next ADC conversion period begins and indicates the internal device conversion (See Datasheet)", 20 DGTL GND (power) "Digital ground for control logic", 21 SUBS (power) "Substrate connection. SUBS should be tied to ADC GND.", 22 ADC GND (power) "Analog ground for the ADC channel", 23 ADC VMID (out) "Midsupply for the ADC channel (requires a bypass capacitor). ADC VMID must be buffered when used as an external reference.", 24 ADC VDD (power) "Analog supply voltage for the ADC channel", 25 IN- (in) "Inverting input to analog input amplifier", 26 IN+ (in) "Noninverting input to analog input amplifier", 27 AUX IN- (in) "Inverting input to auxiliary analog input amplifier", 28 AUX IN+ (in) "Noninverting input to auxiliary analog input amplifier"

## TLC320AC01CFNR
designator U?
Single Channel CODEC-Bandwidth Independent of Sampling Rate, 0 to 70 degC, 28-pin PLCC (FN), Green (RoHS & no Sb/Br); Manufacturer: Texas Instruments; PartNumber: TLC320AC01CFNR; Line Powered: TRUE; Sampling Rate (Max) (kHz): 25; DatasheetVersion: SLAS057D; PackageVersion: revB, Mar-1995; PackageReference: FN28; PackageDescription: 28-Pin Plastic J-Leaded Chip Carrier, 1.27 mm Pitch; Supplier 1: Digi-Key; Supplier Part Number 1: TLC320AC01CFNR-ND; Supplier 2: Newark; Supplier Part Number 2: 76C7261; Supplier 3: Mouser; Supplier Part Number 3: 595-TLC320AC01CFNR; Mounting Technology: Surface Mount; Code_JEDEC: MS-018; ComponentLink1Description: Datasheet; ComponentLink1URL: http://www.ti.com/general/docs/lit/getliterature.tsp?genericPartNumber=TLC320AC01&fileType=pdf
footprint FN28_N (Leaded Chip Carrier, 28-Leads, Body 11.5x11.5mm, Pitch 1.27mm, IPC Medium Density)
footprint FN28_L (Leaded Chip Carrier, 28-Leads, Body 11.5x11.5mm, Pitch 1.27mm, IPC High Density)
footprint FN28_M (Leaded Chip Carrier, 28-Leads, Body 11.5x11.5mm, Pitch 1.27mm, IPC Low Density)
pins: 1 MON OUT (hiz) "The monitor output allows monitoring of analog input and is a high-impedance output.", 2 ~{PWR} ~{DWN} (in) "Power-down input. When P\W\R\ D\W\N\ is taken low, the device is powered down such that the existing internally programmed state is maintained. When P\W\R\ D\W\N\ is brought high, full operation resumes.", 3 OUT+ (out) "Noninverting output of analog output power amplifier. OUT+ can drive transformer hybrids or high-impedance loads directly in a differential connection or a single-ended configuration with a buffered VMID.", 4 OUT- (out) "Inverting output of analog output power amplifier. OUT- is functionally identical with and complementary to OUT+.", 5 DAC VDD (power) "Analog supply voltage for the DAC channel", 6 DAC VMID (out) "Midsupply for the DAC channel (requires a bypass capacitor). DAC VMID must be buffered when used as an external reference.", 7 DAC GND (power) "Analog ground for the DAC channel", 8 ~{RESET} (in) "Reset input that initializes the internal counters and control registers. R\E\S\E\T\ initiates the serial data communications, initializes all of the registers to their default values, and puts the device in a preprogrammed (See Datasheet)", 9 DGTL VDD (power) "Digital supply voltage for control logic", 10 DIN (in) "Data input. DIN receives the DAC input data and command information and is synchronized with SCLK.", 11 DOUT (hiz) "Data output. DOUT outputs the ADC data results and register read contents. DOUT is synchronized with SCLK.", 12 ~{FS} (io) "Frame synchronization. When FS goes low, DIN begins receiving data bits and DOUT  begins transmitting data bits. In master mode, FS is low during the simultaneous 16-bit transmission to DIN and from DOUT. In slave mode, FS (See Datasheet)", 13 SCLK (io) "Shift clock. SCLK clocks the digital data into DIN and out of DOUT during the frame-synchronization interval. When configured as an output (M/S high), SCLK is generated internally by dividing the master clock signal (See Datasheet)", 14 MCLK (in) "The master-clock input drives all the key logic signals of the AIC.", 15 FC0 (in) "Hardware control input. FC0 is used in conjunction with FC1 to request secondary communication and phase adjustments. FC0 should be tied low if it is not used.", 16 FC1 (in) "Hardware control input. FC1 is used in conjunction with FC0 to request secondary communication and phase adjustments. FC1 should be tied low if it is not used.", 17 ~{FSD} (out) "Frame-synchronization delayed output. This active-low output synchronizes a slave device to the frame synchronization timing of the master device. F\S\D\  is applied to the slave F\S\ input and is the same duration as the (See Datasheet)", 18 M/~{S} (in) "Master/slave select input. When M/S\ is high, the device is the master and when low, it is a slave.", 19 EOC (out) "End-of-conversion output. EOC goes high at the start of the ADC conversion period and low when conversion is complete. EOC remains low until the next ADC conversion period begins and indicates the internal device conversion (See Datasheet)", 20 DGTL GND (power) "Digital ground for control logic", 21 SUBS (power) "Substrate connection. SUBS should be tied to ADC GND.", 22 ADC GND (power) "Analog ground for the ADC channel", 23 ADC VMID (out) "Midsupply for the ADC channel (requires a bypass capacitor). ADC VMID must be buffered when used as an external reference.", 24 ADC VDD (power) "Analog supply voltage for the ADC channel", 25 IN- (in) "Inverting input to analog input amplifier", 26 IN+ (in) "Noninverting input to analog input amplifier", 27 AUX IN- (in) "Inverting input to auxiliary analog input amplifier", 28 AUX IN+ (in) "Noninverting input to auxiliary analog input amplifier"